# EAGLE library part HEADER-6P (library - Jins eagle lbr)
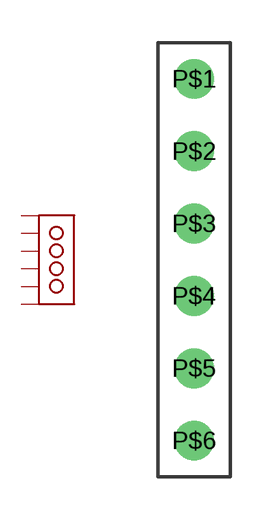
[diagram p6: symbol with the pads of HEADER-6P; footprint HEADER-6P]

Designator prefix H

## HEADER-6P  [HEADER-6P]
P$1  P$1
P$2  P$2
P$3  P$3
P$4  P$4
P$5  P$5
P$6  P$6

## Footprint HEADER-6P (pad centres in mm)
drill 0.8 pad 1.4: P$1 0,2.54; P$2 0,0; P$3 0,-2.54; P$4 0,-5.08; P$5 0,-7.62; P$6 0,-10.16